# Altium schematic symbol library TC4468OE.SchLib: 1 symbol
Pins are listed as number, name and electrical type; pins without a type are passive.

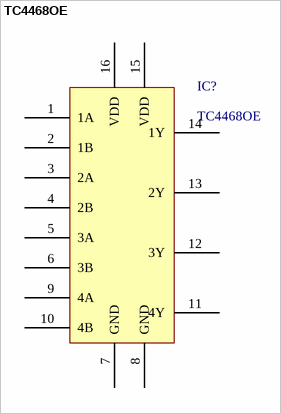
[diagram p0: symbol TC4468OE]

## TC4468OE
designator IC?
footprint SO-16
pins: 1 1A, 2 1B, 3 2A, 4 2B, 5 3A, 6 3B, 7 GND, 8 GND, 9 4A, 10 4B, 11 4Y, 12 3Y, 13 2Y, 14 1Y, 15 VDD, 16 VDD